# Altium footprint library HDSP-7801.PcbLib: 1 footprints
Each footprint in its own frame and in the unit in brackets; x right, y up, seen from the top. Pads: shape width x height; smd on the part's side, far side on the other; paste and mask are expansions set on the pad; w line width, h text height; cw(c..) or ccw(c..) is an arc to the next point about the centre after c.
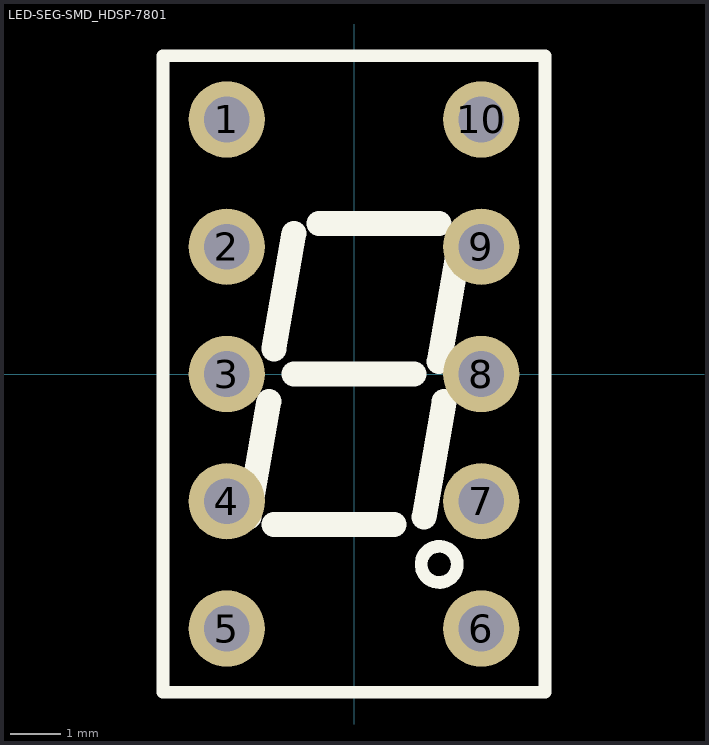
[diagram p0: the footprint, top view; thin cyan lines are the x and y axes]

## LED-SEG-SMD_HDSP-7801 [mil]
pads (10):
  round 60 hole 36 paste-99999 mask+2: 1(-100,200) 2(-100,100) 3(-100,0) 4(-100,-100) 5(-100,-200) 6(100,-200) 7(100,-100) 8(100,0) 9(100,100) 10(100,200)
Top Overlay:
  circle w10: c66.93,-149.61 r14.2
  lines w10: -150,-250 -150,250 150,250 150,-250 -150,-250
  lines w19.68: -82.68,-112.2 -66.93,-21.65 ; -63,-118.1 31.5,-118.1 ; -62.99,19.68 -47.24,110.24 ; -47.24,0 47.24,0 ; -27.56,118.11 66.93,118.11 ; 55.12,-112.2 70.87,-21.65 ; 66.93,9.84 82.68,100.39